# Altium footprint library IC_Analog_Devices_TMP36GT9Z_eec_0.PcbLib: 1 footprints
Each footprint in its own frame and in the unit in brackets; x right, y up, seen from the top. Pads: shape width x height; smd on the part's side, far side on the other; paste and mask are expansions set on the pad; w line width, h text height; cw(c..) or ccw(c..) is an arc to the next point about the centre after c.
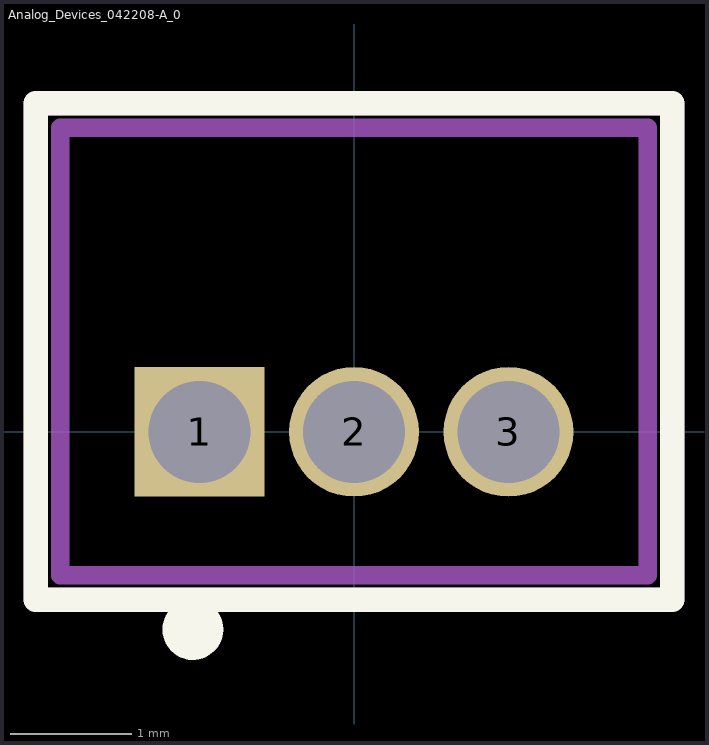
[diagram p0: the footprint, top view; thin cyan lines are the x and y axes]

## Analog_Devices_042208-A_0 [mil]
pads (3):
  rect 42x42 hole 33.07 paste-39370.1 mask+0: 1(-50,0)
  round 42 hole 33.07 paste-39370.1 mask+0: 2(0,0) 3(50,0)
Top Overlay:
  circle w9.84: c-52.17,-63.98 r4.92
  lines w7.87: -103,-54.36 103,-54.36 103,106.36 -103,106.36 -103,-54.36
Mechanical 10:
  lines w7.87: -103,-54.36 103,-54.36 103,106.36 -103,106.36 -103,-54.36
  text ".Designator" at 0,26 h39.37
Mechanical 12:
  lines w6: -95.08,-46.44 95.08,-46.44 95.08,98.44 -95.08,98.44 -95.08,-46.44
Mechanical 15:
  lines w7.87: -103,-54.36 103,-54.36 103,106.36 -103,106.36 -103,-54.36